# EAGLE library part FT4232H (library FT4232H)
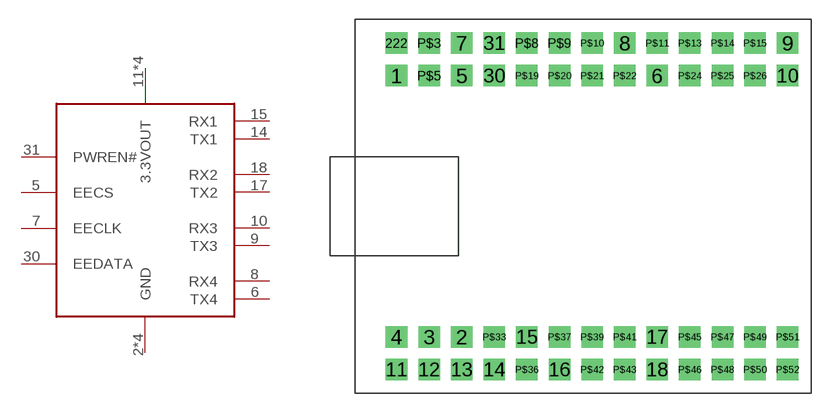
[diagram p0: symbol with the pads of FT4232H-MODULE; footprint FT4232H-MODULE]

Designator prefix -

## FT4232H  [FT4232H-MODULE]
2  GND
3  GND
4  GND
5  EECS
6  TX4
7  EECLK
8  RX4
9  TX3
10  RX3
11  3.3VOUT
12  3.3VOUT
13  3.3VOUT
14  TX1
15  RX1
16  3.3VOUT
17  TX2
18  RX2
30  EEDATA
31  PWREN#
222  GND

## Footprint FT4232H-MODULE (pad centres in mm)
drill 0.8 pad 1.676 square: 1 3.25,24.75; 2 8.33,4.4; 3 5.79,4.4; 4 3.25,4.4; 5 8.33,24.75; 6 23.57,24.75; 7 8.33,27.29; 8 21.03,27.29; 9 33.73,27.29; 10 33.73,24.75; 11 3.25,1.86; 12 5.79,1.86; 13 8.33,1.86; 14 10.87,1.86; 15 13.41,4.4; 16 15.95,1.86; 17 23.57,4.4; 18 23.57,1.86; 30 10.87,24.75; 31 10.87,27.29; 222 3.25,27.29; P$3 5.79,27.29; P$5 5.79,24.75; P$8 13.41,27.29; P$9 15.95,27.29; P$10 18.49,27.29; P$11 23.57,27.29; P$13 26.11,27.29; P$14 28.65,27.29; P$15 31.19,27.29; P$19 13.41,24.75; P$20 15.95,24.75; P$21 18.49,24.75; P$22 21.03,24.75; P$24 26.11,24.75; P$25 28.65,24.75; P$26 31.19,24.75; P$33 10.87,4.4; P$36 13.41,1.86; P$37 15.95,4.4; P$39 18.49,4.4; P$41 21.03,4.4; P$42 18.49,1.86; P$43 21.03,1.86; P$45 26.11,4.4; P$46 26.11,1.86; P$47 28.65,4.4; P$48 28.65,1.86; P$49 31.19,4.4; P$50 31.19,1.86; P$51 33.73,4.4; P$52 33.73,1.86